# Altium schematic symbol library 142-0701-201.SchLib: 1 symbol
Pins are listed as number, name and electrical type; pins without a type are passive.

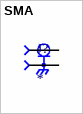
[diagram p0: symbol SMA]

## SMA
designator J?
Johnson Components 142-0701-201 / Conn Recept Straight Pcb .155""; MF: {'manufacturer': u'Cinch Connectivity Solutions Johnson'}; Package: None; Availability: Unavailable; Value: *; MP: 142-0701-201; Price: None
footprint JOHNSON_142-0701-201
pins: 1, 2, 3 2, 4 2, 5 2